# Altium integrated library Integrated.IntLib: 8 symbols
Pins are listed as number, name and electrical type; pins without a type are passive.

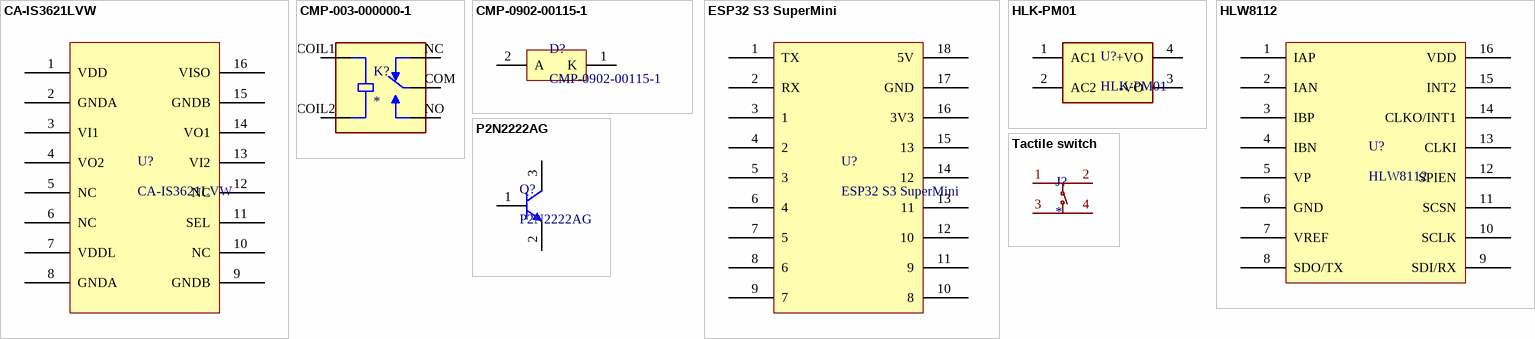
[diagram p0: symbols CA-IS3621LVW to Tactile switch]

## CA-IS3621LVW
designator U?
footprint CA-IS3621LVW
pins: 1 VDD, 2 GNDA, 3 VI1, 4 VO2, 5 NC, 6 NC, 7 VDDL, 8 GNDA, 9 GNDB, 10 NC, 11 SEL, 12 NC, 13 VI2, 14 VO1, 15 GNDB, 16 VISO

## CMP-003-000000-1
designator K?
footprint CMP-003-000000-1
pins: COIL1, COIL2, COM, NC, NO

## CMP-0902-00115-1
designator D?
footprint CMP-0902-00115-1
pins: 1 K, 2 A

## ESP32 S3 SuperMini
designator U?
footprint ESP32 S3 SuperMini
pins: 1 TX, 2 RX, 3 1, 4 2, 5 3, 6 4, 7 5, 8 6, 9 7, 10 8, 11 9, 12 10, 13 11, 14 12, 15 13, 16 3V3, 17 GND, 18 5V

## HLK-PM01
designator U?
footprint HLK-PM01
pins: 1 AC1, 2 AC2, 3 -VO, 4 +VO

## HLW8112
designator U?
footprint HLW8112
pins: 1 IAP, 2 IAN, 3 IBP, 4 IBN, 5 VP, 6 GND, 7 VREF, 8 SDO/TX, 9 SDI/RX, 10 SCLK, 11 SCSN, 12 SPIEN, 13 CLKI, 14 CLKO/INT1, 15 INT2, 16 VDD

## P2N2222AG
designator Q?
footprint FP-SOT23-IPC_A
pins: 1 B, 2 E, 3 C

## Tactile switch
designator J?
footprint Tactive switch
pins: 1 A, 2 B, 3 C, 4 D